# EAGLE library part LTC2991CMS (library mgr_components)
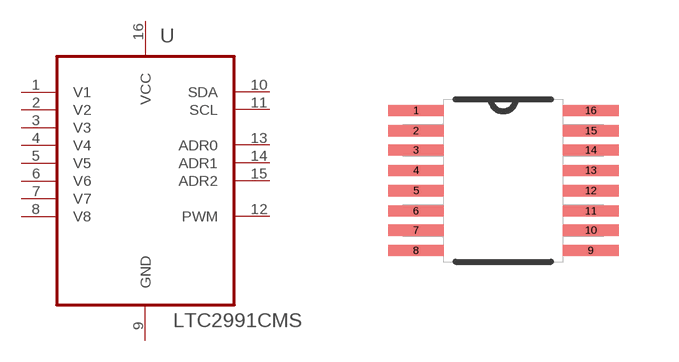
[diagram p1: symbol with the pads of SOP50P490X110-16N; footprint SOP50P490X110-16N]

Designator prefix -

## LTC2991CMS  [SOP50P490X110-16N]
1  V1  in
2  V2  in
3  V3  in
4  V4  in
5  V5  in
6  V6  in
7  V7  in
8  V8  in
9  GND  pwr
10  SDA
11  SCL  in
12  PWM  out
13  ADR0  in
14  ADR1  in
15  ADR2  in
16  VCC  pwr

## Footprint SOP50P490X110-16N (pad centres in mm)
smd 1.397 x 0.279: 1 -2.184,1.753; 2 -2.184,1.245; 3 -2.184,0.762; 4 -2.184,0.254; 5 -2.184,-0.254; 6 -2.184,-0.762; 7 -2.184,-1.245; 8 -2.184,-1.753; 9 2.184,-1.753; 10 2.184,-1.245; 11 2.184,-0.762; 12 2.184,-0.254; 13 2.184,0.254; 14 2.184,0.762; 15 2.184,1.245; 16 2.184,1.753